# Altium schematic symbol library PTS647SM50SMTR2LFS.SchLib: 1 symbol
Pins are listed as number, name and electrical type; pins without a type are passive.

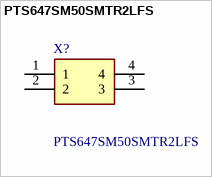
[diagram p0: symbol PTS647SM50SMTR2LFS]

## PTS647SM50SMTR2LFS
designator X?
Tactile Switches 50mA 12VDC, 1.8N 5.0mm H, G leads; Manufacturer_Name: C & K COMPONENTS; Geometry.Height: 5.25mm; Manufacturer_Part_Number: PTS647SM50SMTR2LFS; Mouser Part Number: 611-PTS647SM50SMTR2L; Mouser Price/Stock: https://www.mouser.co.uk/ProductDetail/CK/PTS647SM50SMTR2LFS?qs=PqoDHHvF64%252BjK4ZB7f42kw%3D%3D; Arrow Part Number: PTS647SM50SMTR2LFS; Arrow Price/Stock: https://www.arrow.com/en/products/pts-647-sm50-smtr2-lfs/ck?region=europe; Datasheet Link: https://www.ckswitches.com/media/2567/pts647.pdf
footprint PTS647SM50SMTR2LFS
pins: 1, 2, 3, 4